# EAGLE library part HR913550A (library alvie)
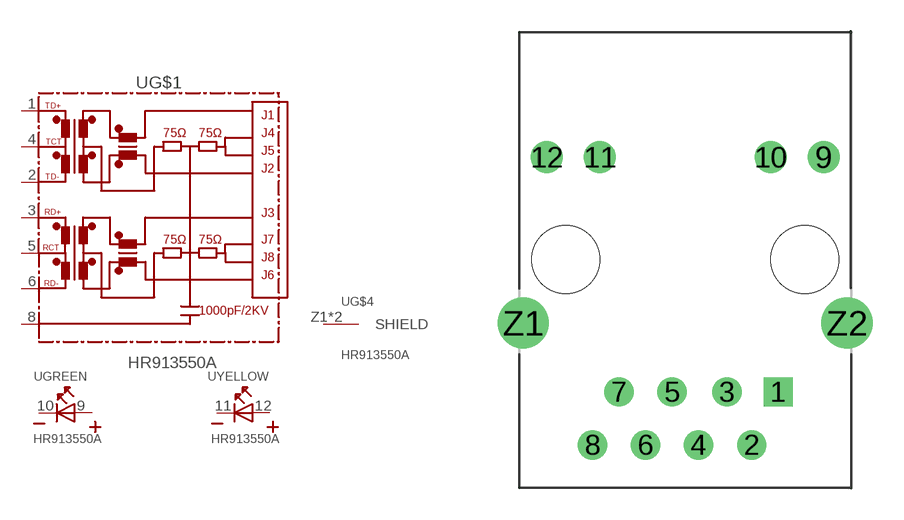
[diagram p51: symbol with the pads of HR13550A; footprint HR13550A]

Designator prefix -; gates G$1=RJ45-MAG GREEN=LED-2PIN YELLOW=LED-2PIN G$4=SIHELD

## HR913550A  [HR13550A]
1  G$1:1
2  G$1:2
3  G$1:3
4  G$1:4
5  G$1:5
6  G$1:6
8  G$1:8
9  GREEN:A  pas
10  GREEN:K  pas
11  YELLOW:K  pas
12  YELLOW:A  pas
Z1  G$4:SHIELD  pas
Z2  G$4:SHIELD  pas

## Footprint HR13550A (pad centres in mm)
drill 0.89 square: 1 4.45,-6.35
drill 0.89: 2 3.18,-8.89; 3 2,-6.35; 4 0.64,-8.89; 5 -0.63,-6.35; 6 -1.9,-8.89; 7 -3.17,-6.35; 8 -4.44,-8.89
drill 1.02: 9 6.625,4.9; 10 4.085,4.9; 11 -4.085,4.9; 12 -6.625,4.9
drill 1.63: Z1 -7.745,-3.05; Z2 7.745,-3.05
hole 3.25 at -5.715,0
hole 3.25 at 5.715,0